# Altium footprint library Oxy_Lib.PcbLib: 19 footprints (part 2 of 2)
Each footprint in its own frame and in the unit in brackets; x right, y up, seen from the top. Pads: shape width x height; smd on the part's side, far side on the other; paste and mask are expansions set on the pad; w line width, h text height; cw(c..) or ccw(c..) is an arc to the next point about the centre after c.
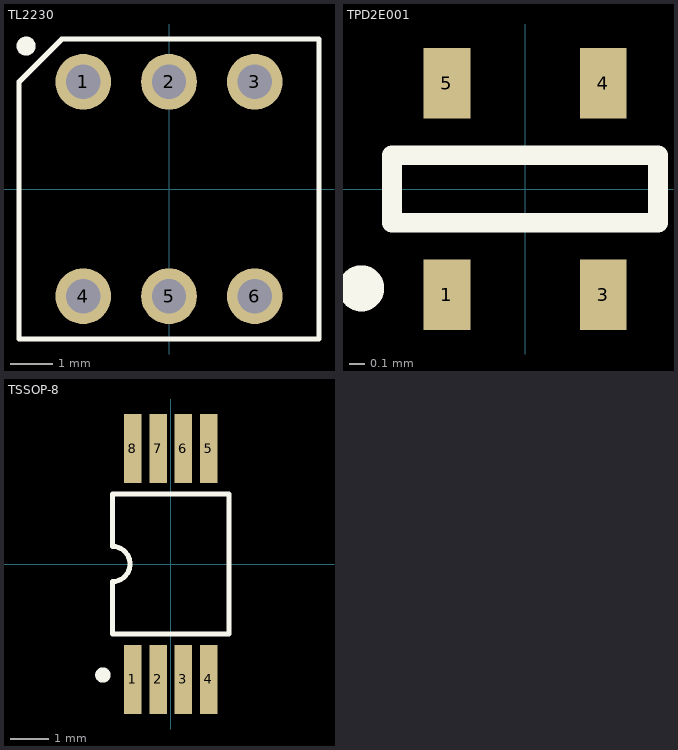
[diagram p1: the footprints below, top view; thin cyan lines are the x and y axes]

## TL2230 [mm]
pads (6):
  round 1.3 hole 0.8: 1(-2,2.5) 2(0,2.5) 3(2,2.5) 4(-2,-2.5) 5(0,-2.5) 6(2,-2.5)
Top Overlay:
  circle w0.254: c-3.334,3.334 r0.095
  lines w0.127: 3.492,3.5 -2.501,3.5 -3.5,2.501 -3.5,-3.5 3.5,-3.5 3.5,3.5

## TPD2E001 [mm]
pads (4):
  rect 0.3x0.45 smd mask+0.07: 1(-0.5,-0.675) 3(0.5,-0.675) 4(0.5,0.675) 5(-0.5,0.675)
Top Overlay:
  circle w0.254: c-1.048,-0.635 r0.02
  lines w0.127: -0.85,-0.216 -0.85,0.216 0.85,0.216 0.85,-0.216 -0.85,-0.216
3D body "User Library-R-PDSO-N5.step": height 0.55, standoff -0.05, extent -0.85,-0.85 0.85,0.85

## TSSOP-8 [mm]
pads (8):
  rect 0.45x1.78 smd mask+0.07: 1(-0.975,-2.97) 2(-0.325,-2.97) 3(0.325,-2.97) 4(0.975,-2.97) 5(0.975,2.97) 6(0.325,2.97) 7(-0.325,2.97) 8(-0.975,2.97)
Top Overlay:
  circle w0.254: c-1.746,-2.857 r0.071
  lines w0.127: -1.5,-1.8 -1.5,-0.453 ccw(c-1.5,0) -1.5,0.453 -1.5,1.8 1.5,1.8 1.5,-1.8 -1.5,-1.8
3D body "User Library-TSS0P8-1.step": height 1.09, standoff 0, extent -1.499,-3.343 1.501,2.937